# EAGLE library part TEN-40 (library custom)
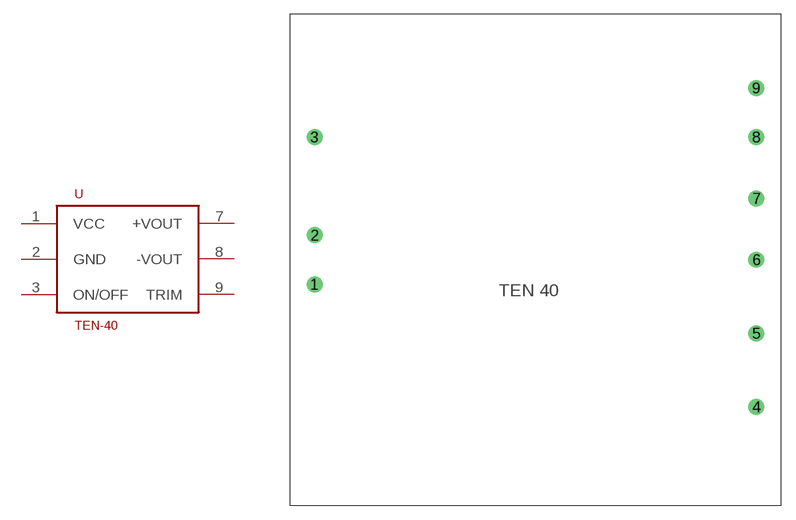
[diagram p5: symbol with the pads of TRACO2X2; footprint TRACO2X2]

Designator prefix -

## TEN-40  [TRACO2X2]
1  VCC
2  GND
3  ON/OFF
7  +VOUT
8  -VOUT
9  TRIM

## Footprint TRACO2X2 (pad centres in mm)
drill 1.1: 1 -22.86,-2.54; 2 -22.86,2.54; 3 -22.86,12.7; 4 22.86,-15.24; 5 22.86,-7.62; 6 22.86,0; 7 22.86,6.35; 8 22.86,12.7; 9 22.86,17.78